# EAGLE library part WD-C2401P (library chlk_bot)
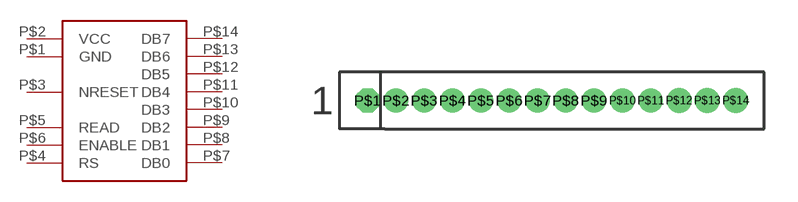
[diagram p4: symbol with the pads of 0.5MM-14; footprint 0.5MM-14]

Designator prefix -

## WD-C2401P  [0.5MM-14]
P$1  GND
P$2  VCC
P$3  NRESET
P$4  RS
P$5  READ
P$6  ENABLE
P$7  DB0
P$8  DB1
P$9  DB2
P$10  DB3
P$11  DB4
P$12  DB5
P$13  DB6
P$14  DB7

## Footprint 0.5MM-14 (pad centres in mm)
drill 0.584 pad 0.889 octagon: P$1 0,0
drill 0.584 pad 0.889 round: P$2 1.27,0; P$3 2.54,0; P$4 3.81,0; P$5 5.08,0; P$6 6.35,0; P$7 7.62,0; P$8 8.89,0; P$9 10.16,0; P$10 11.43,0; P$11 12.7,0
drill 0.61 pad 0.889 round: P$12 13.97,0; P$13 15.24,0; P$14 16.51,0